# Altium footprint library ATMEGA328P-PU_ft.PcbLib: 1 footprints
Each footprint in its own frame and in the unit in brackets; x right, y up, seen from the top. Pads: shape width x height; smd on the part's side, far side on the other; paste and mask are expansions set on the pad; w line width, h text height; cw(c..) or ccw(c..) is an arc to the next point about the centre after c.
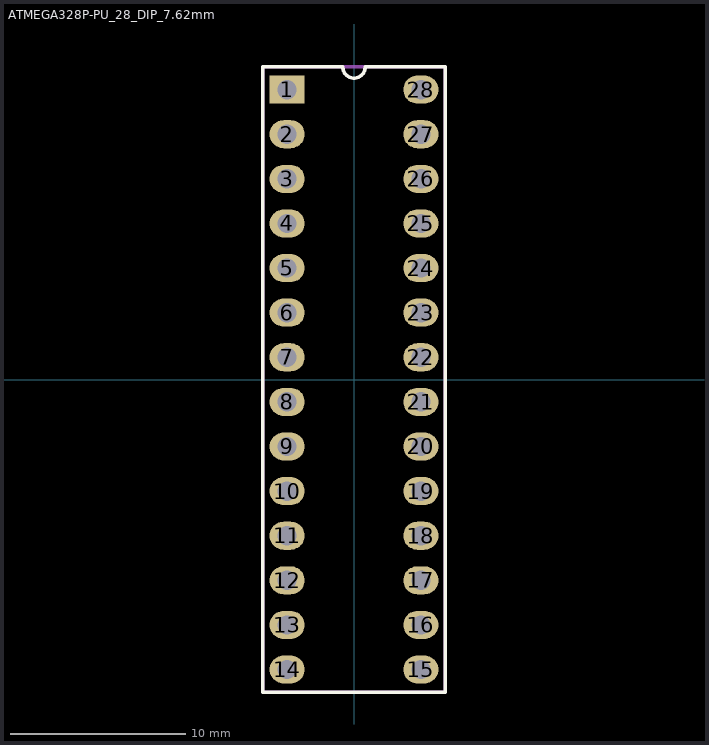
[diagram p0: the footprint, top view; thin cyan lines are the x and y axes]

## ATMEGA328P-PU_28_DIP_7.62mm [mm]
pads (28):
  rect 2x1.6 hole 1.1: 1(-3.81,16.51)
  oval 2x1.6 hole 1.1: 2(-3.81,13.97) 3(-3.81,11.43) 4(-3.81,8.89) 5(-3.81,6.35) 6(-3.81,3.81) 7(-3.81,1.27) 8(-3.81,-1.27) 9(-3.81,-3.81) 10(-3.81,-6.35) 11(-3.81,-8.89) 12(-3.81,-11.43) 13(-3.81,-13.97) 14(-3.81,-16.51) 15(3.81,-16.51) 16(3.81,-13.97) 17(3.81,-11.43) 18(3.81,-8.89) 19(3.81,-6.35) 20(3.81,-3.81) 21(3.81,-1.27) 22(3.81,1.27) 23(3.81,3.81) 24(3.81,6.35) 25(3.81,8.89) 26(3.81,11.43) 27(3.81,13.97) 28(3.81,16.51)
Top Overlay:
  lines w0.2: -5.2,-17.8 5.2,-17.8 5.2,17.8 0.635,17.8 cw(c0,17.8) -0.635,17.8 -5.2,17.8 -5.2,-17.8
Mechanical 29:
  circle w0.5: c-3.8,16.45 r0.237
  lines w0.2: -5.2,-17.8 -5.2,17.8 5.2,17.8 5.2,-17.8 -5.2,-17.8
  text ".Designator" at 1.051,-14.5 h3
3D body "User Library-28 pin dip-1.step": height 7.55, standoff 1.33, extent -4.087,-17.95 3.787,17.991